# Altium integrated library at89c51.IntLib: 9 symbols
Pins are listed as number, name and electrical type; pins without a type are passive.

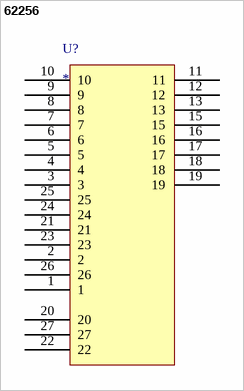
[diagram p0: symbol 62256]

## 62256
designator U?
footprint SOJ127P870X356-26M (SOJ, 26-Leads, Body 13.00x8.66mm, Pitch 1.27mm, IPC Low Density)
pins: 1, 2, 3, 4, 5, 6, 7, 8, 9, 10, 11, 12, 13, 15, 16, 17, 18, 19, 20, 21, 22, 23, 24, 25, 26, 27


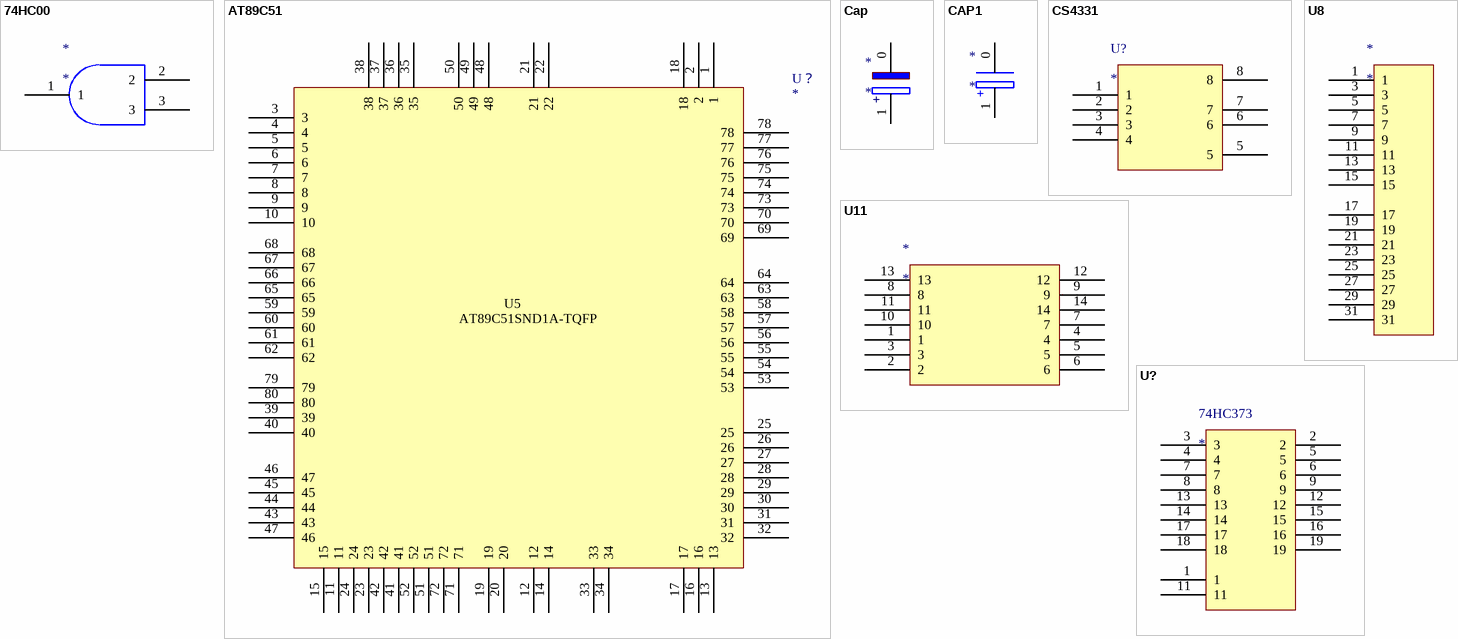
[diagram p1: symbols 74HC00 to U?]

## 74HC00
designator *
footprint 74HC00
pins: 1, 2, 3

## AT89C51
designator U？
footprint QFP65P1720X2320X245-100M (QFP, 100-Leads, Body 14.00x20.00mm, Pitch 0.65mm, IPC Low Density)
pins: 1, 2, 3, 4, 5, 6, 7, 8, 9, 10, 11, 12, 13, 14, 15, 16, 17, 18, 19, 20, 21, 22, 23, 24, 25, 26, 27, 28, 29, 30, 31, 32, 33, 34, 35, 36, 37, 38, 39, 40, 41, 42, 43, 44, 45, 46 47, 47 46, 48, 49, 50, 51, 52, 53, 54, 55, 56, 57, 58, 59, 60, 61, 62, 63, 64, 65, 66, 67, 68, 69, 70, 71, 72, 73, 74, 75, 76, 77, 78, 79, 80
text: U5; AT89C51SND1A-TQFP

## Cap
designator *
footprint PCBComponent_1
footprint cap
footprint cap
pins: 0, 1
text: +

## CAP1
designator *
footprint cap
pins: 0 9, 1 10
text: +

## CS4331
designator U?
footprint CS4331
pins: 1, 2, 3, 4, 5, 6, 7, 8

## U8
designator *
footprint U8
pins: 1, 3, 5, 7, 9, 11, 13, 15, 17, 19, 21, 23, 25, 27, 29, 31

## U11
designator *
footprint U11
pins: 1, 2, 3, 4, 5, 6, 7, 8, 9, 10, 11, 12, 13, 14

## U?
designator 74HC373
footprint 74HC373
pins: 1, 2, 3, 4, 5, 6, 7, 8, 9, 11, 12, 13, 14, 15, 16, 17, 18, 19